# Altium footprint library Resistor.PcbLib: 3 footprints
Each footprint in its own frame and in the unit in brackets; x right, y up, seen from the top. Pads: shape width x height; smd on the part's side, far side on the other; paste and mask are expansions set on the pad; w line width, h text height; cw(c..) or ccw(c..) is an arc to the next point about the centre after c.
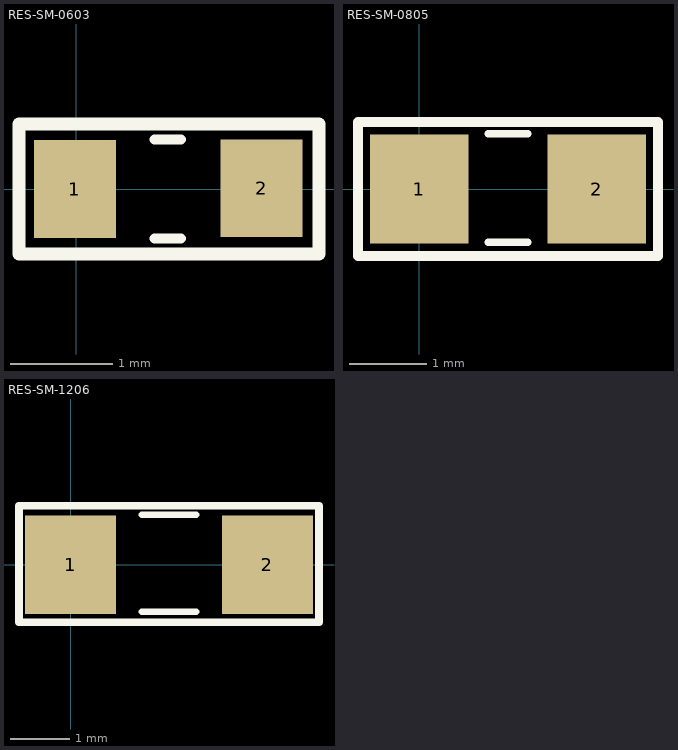
[diagram p0: the footprints below, top view; thin cyan lines are the x and y axes]

## RES-SM-0603 [mm]
pads (2):
  rect 0.8x0.95 smd: 1(-0.014,0) 2(1.803,0.006)
Top Overlay:
  lines w0.1: 0.762,-0.483 1.016,-0.483 ; 0.762,0.483 1.016,0.483
  lines w0.127: -0.559,-0.635 -0.559,0.635 2.362,0.635 2.362,-0.635 -0.559,-0.635
3D body "Resistor 0603.step": height 0.5, standoff 0, extent -0.161,-0.406 1.939,0.394

## RES-SM-0805 [mil]
pads (2):
  rect 50x55 smd: 1(0,0) 2(90,0)
Top Overlay:
  lines w4: 35,-27 55,-27 ; 35,28 55,28
  lines w5: -31,-34 -31,34 121,34 121,-34 -31,-34
3D body "Resistor 0805.step": height 19.72, standoff -0.1, extent -4.66,-24 94.66,25.21

## RES-SM-1206 [mil]
pads (2):
  rect 60x65 smd: 1(0,0) 2(130,0)
Top Overlay:
  lines w4: 47,-31 83,-31 ; 47,33 83,33
  lines w5: -34,-38 -34,39 164,39 164,-38 -34,-38
3D body "Resistor 1206.step": height 23.66, standoff 0, extent -10.8,-31 138.8,31.99